# Altium schematic symbol library Voltage detect all components.SCHLIB: 15 symbols
Pins are listed as number, name and electrical type; pins without a type are passive.

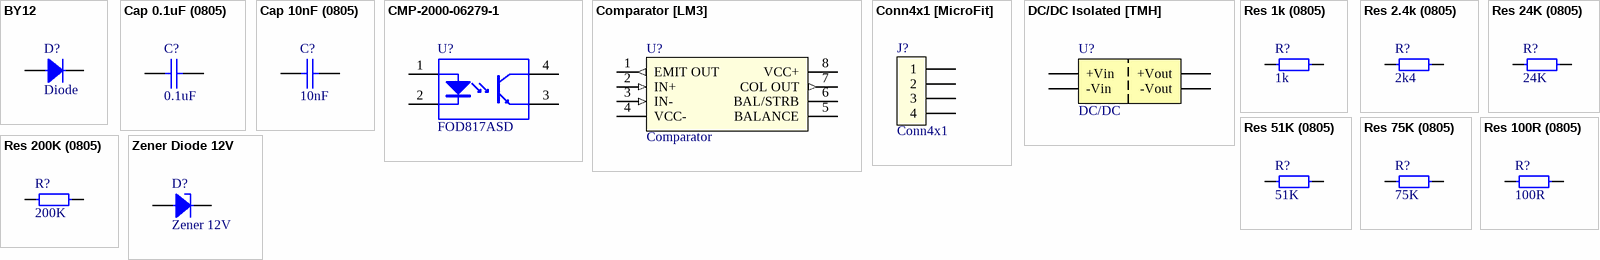
[diagram p0: symbols BY12 to Zener Diode 12V]

## BY12
designator D?, comment Diode
BY12 - Highg voltage diode; ComponentLink1Description: ChipDip; ComponentLink1URL: https://www.chipdip.ru/product/by12; ComponentLink2Description: Datasheet; ComponentLink2URL: https://static.chipdip.ru/lib/508/DOC001508556.pdf
footprint BY12
footprint BY12
pins: 1, 2

## Cap 0.1uF (0805)
designator C?, comment 0.1uF
0.1uF X7R 50V 10% 0805; Manufacturer: Murata Manufacturing; Part Number: GRM21BR71H104K; Type: Capacitor; ComponentLink1Description: Chip&Dip; ComponentLink1URL: https://www.chipdip.ru/product/grm21br71h104k
footprint 0805 Capicator
pins: 1, 2

## Cap 10nF (0805)
designator C?, comment 10nF
0805 X7R 10nF 100V 10%; Manufacturer: Murata Manufacturing; Part Number: GRM21BR72A103KA01L; Type: Capacitor; ComponentLink1Description: Chip&Dip; ComponentLink1URL: https://www.chipdip.ru/product/grm21br72a103ka01l
footprint 0805 Capicator
pins: 1, 2

## CMP-2000-06279-1
designator U?, comment FOD817ASD
Phototransistor Optocoupler, 4 us Rise, 3 us Fall, 5000 Vrms, -55 to 110 degC, 4-Pin MDIP, RoHS, Tape and Reel; Manufacturer: Fairchild Semiconductor; Manufacturer: ON Semiconductor / Fairchild; Maximum Input Current: 50mA; Maximum Forward Voltage: 1.4V; Maximum Reverse Voltage: 6V; Product Width: 7mm(Max); Input Type: DC; Maximum Current Transfer Ratio: 160%; Maximum Rise Time: 18us; Typical Rise Time: 4us; Typical Forward Voltage: 1.2V; Product Length: 5.1mm(Max); Package Version: 10/2014; Maximum Collector Emitter Saturation Voltage: 200mV; Number of Channels per Chip: 1; Product Height: 4mm(Max); Maximum Power Dissipation: 200mW; Typical Fall Time: 3us; Maximum Collector Emitter Voltage: 70V; Pin_Count: 4; Minimum Current Transfer Ratio: 80%; Output Device: Transistor; Manufacturer URL: https://www.fairchildsemi.com/; Family: FOD817; Supplier_Package: PDIPSMDBlack; Datasheet URL: https://www.fairchildsemi.com/datasheets/FO/FOD817.pdf; Package Description: 4-Pin Surface Mount Device, Body 6.5 x 4.6 mm, Pitch 2.54 mm; Mounting Technology: SurfaceMount; Package Reference: MDIP 4L; Maximum Operating Temperature: 110C; Mounting: SurfaceMount; Maximum Fall Time: 18us; Package URL: https://www.fairchildsemi.com/package-drawings/N0/N04C.pdf; Product Type: TransistorandPhotovoltaicOutputPhotoCouplers; Datasheet Version: Rev. 2.8, 11/2015; Minimum Operating Temperature: -55C; Maximum Collector Current: 50mA; Packaging: TapeandReel; Minimum Isolation Voltage: 5000Vrms; Output Type: DC; Manufacturer Part Number: FOD817ASD
footprint FAIR-MDIP-4_V (SMD, 4-Leads, Body 6.5x4.6mm, Pitch 2.54mm)
pins: 1 ANODE, 2 CATHODE, 3 EMITTER, 4 COLLECTOR

## Comparator [LM3]
designator U?, comment Comparator
Differential comparator with strobes; Part Number: LM311DR; Manufacturer: Texas Instruments; ComponentLink1Description: DataSheet; ComponentLink1URL: https://static.chipdip.ru/lib/222/DOC000222396.pdf; ComponentLink2Description: Chip&Dip; ComponentLink2URL: https://www.chipdip.ru/product/lm311d; Type: IC
footprint SO-8
pins: 1 EMIT OUT (out), 2 IN+ (in), 3 IN- (in), 4 VCC- (power), 5 BALANCE (oc), 6 BAL/STRB (oc), 7 COL OUT (out), 8 VCC+ (power)

## Conn4x1 [MicroFit]
designator J?, comment Conn4x1
Micro-Fit 3.0 Right-Angle Header, 3.00mm Pitch, Single Row, 4 Circuits, with Snap-in Plastic Peg PCB Lock, Tin, Glow-Wire Capable, Black; Part Number: 436500400; Manufacturer: Molex; ComponentLink1Description: Molex; ComponentLink1URL: https://www.molex.com/molex/products/part-detail/pcb_headers/0436500400; Type: Connector
footprint MolexMicroFit 4x1
pins: 1, 2, 3, 4

## DC/DC Isolated [TMH]
designator U?, comment DC/DC
The TMH series are ultra miniature, isolated 2 Watt DC/DC-converters in a Single-in-Line  package  (SIP); ComponentLink1Description: Chip&Dip; ComponentLink1URL: https://www.chipdip.ru/product1/8001973226?from=suggest_product; ComponentLink2Description: New link; ComponentLink2URL: https://static.chipdip.ru/lib/006/DOC001006195.pdf
footprint SIP7
pins: 1 +Vin (power) "Input Supply Voltage", 2 -Vin (power) "Power Ground", 5 -Vout (power), 7 +Vout (power)

## Res 1k (0805)
designator R?, comment 1k
0.125W 0805 1k, 1%; Part Number: RC0805FR-071KL; Manufacturer: Taiwan; Type: Resistor; ComponentLink1Description: Chip&Dip; ComponentLink1URL: https://www.chipdip.ru/product0/9000079486
footprint 0805 Resistor
pins: 1, 2

## Res 2.4k (0805)
designator R?, comment 2k4
0.125W 0805 2.4k, 1%; Part Number: RC0805FR-072K4L; Manufacturer: Taiwan; Type: Resistor; ComponentLink1Description: Chip&Dip; ComponentLink1URL: https://www.chipdip.ru/product0/9000079495
footprint 0805 Resistor
pins: 1, 2

## Res 24K (0805)
designator R?, comment 24K
0.125W 0805 24K, 1%; Part Number: RC0805FR-0724KL; Manufacturer: Taiwan; Type: Resistor; ComponentLink1Description: Chip&Dip; ComponentLink1URL: https://www.chipdip.ru/product0/9000079523
footprint 0805 Resistor
pins: 1, 2

## Res 51K (0805)
designator R?, comment 51K
0.125W 0805 51K, 1%; Part Number: RC0805FR-0751KL; Manufacturer: Taiwan; Type: Resistor; ComponentLink1Description: Chip&Dip; ComponentLink1URL: https://www.chipdip.ru/product0/9000079531
footprint 0805 Resistor
pins: 1, 2

## Res 75K (0805)
designator R?, comment 75K
0.125W 0805 75K, 1%; Part Number: RC0805FR-0775KL; Manufacturer: Taiwan; Type: Resistor; ComponentLink1Description: Chip&Dip; ComponentLink1URL: https://www.chipdip.ru/product0/9000079535
footprint 0805 Resistor
pins: 1, 2

## Res 100R (0805)
designator R?, comment 100R
0.125W 0805 100R, 1%; Part Number: RC0805FR-07100RL; Manufacturer: Taiwan; Type: Resistor; ComponentLink1Description: Chip&Dip; ComponentLink1URL: https://www.chipdip.ru/product0/9000079462
footprint 0805 Resistor
pins: 1, 2

## Res 200K (0805)
designator R?, comment 200K
0.125W 0805 200K, 1%; Part Number: RC0805FK-07200KL; Manufacturer: Taiwan; Type: Resistor; ComponentLink1Description: Chip&Dip; ComponentLink1URL: https://www.chipdip.ru/product0/914213016
footprint 0805 Resistor
pins: 1, 2

## Zener Diode 12V
designator D?, comment Zener 12V
300mW; Part Number: BZX384-C12,115; Manufacturer: NXP Semiconductor; Type: Diode; ComponentLink1Description: Chip&Dip; ComponentLink1URL: https://www.chipdip.ru/product/bzx384-c12.115; ComponentLink2Description: DataSheet; ComponentLink2URL: https://static.chipdip.ru/lib/583/DOC001583013.pdf
footprint sod-323
pins: 1, 2